# EAGLE library part LL2765 (library wheat)
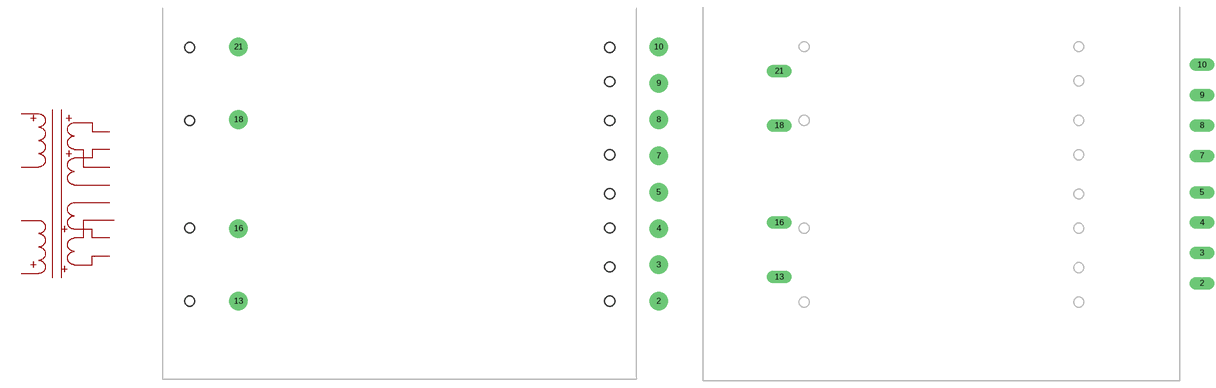
[diagram p245: symbol with the pads of LL2765; footprints LL2765, LL2765B]

Designator prefix T

## LL2765  [LL2765]
2  2  pas
3  3  pas
4  4  pas
5  5  pas
7  7  pas
8  8  pas
9  9  pas
10  10  pas
13  13  pas
16  16  pas
18  18  pas
21  21  pas

## LL2765B  [LL2765B]
Pads as for LL2765

## Footprint LL2765 (pad centres in mm)
drill 1.5 pad 3.81: 2 53,-22; 3 53,-14.558; 4 53,-7.116; 5 53,0.327; 7 53,7.769; 8 53,15.211; 9 53,22.653; 10 53,30.095; 13 -33,-22; 16 -33,-7.116; 18 -33,15.211; 21 -33,30.095

## Footprint LL2765B (pad centres in mm)
drill 1.5 pad 2.54 long: 2 53,-18.19; 3 53,-12.018; 4 53,-5.846; 5 53,0.327; 7 53,7.769; 8 53,13.941; 9 53,20.113; 10 53,26.285; 13 -33,-16.92; 16 -33,-5.846; 18 -33,13.941
drill 1.575 pad 2.54 long: 21 -33,25.015